# Altium integrated library TI Power Management Linear Regulator Dual Channel LDO.IntLib: 299 symbols (part 15 of 15)
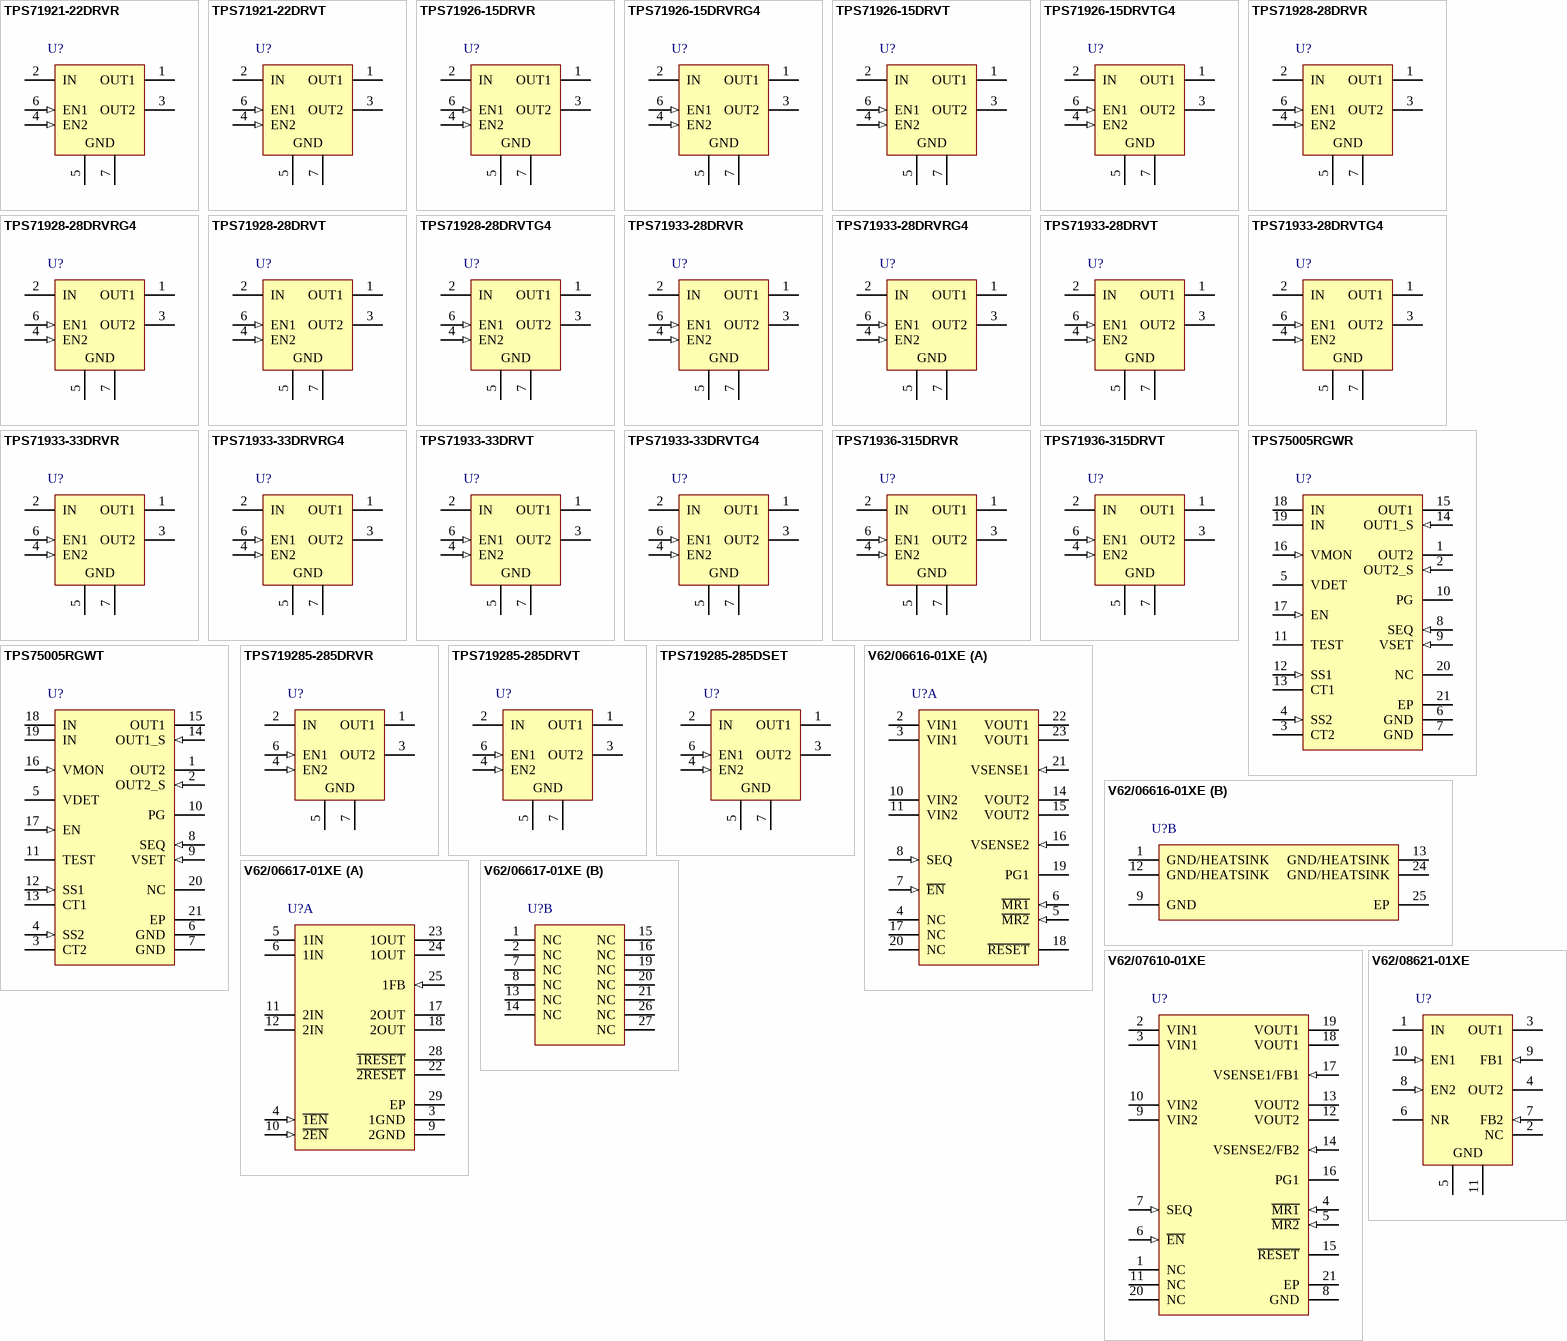
[diagram p25: symbols TPS71921-22DRVR to V62/08621-01XE]

## TPS71933-33DRVT
designator U?
Dual Output High PSRR LDO, 200 mA, Fixed 3.3 V Output, 2.7 to 6.5 V Input, 6-pin SON (DRV), -40 to 125 degC, Green (RoHS & no Sb/Br); Manufacturer: Texas Instruments; PartNumber: TPS71933-33DRVT; Fixed Output Options(V): 3.3; Iout(Max)(A): 0.2; Iq(Typ)(mA): 0.09; SubFamily: Dual Channel LDO; Vdo(Typ)(mV): 230; Vin(Max)(V): 6.5; Vin(Min)(V): 2.7; DatasheetVersion: SBVS088C; PackageVersion: 4206925/E; PackageReference: DRV6-1600X1000TP; PackageDescription: 6-Pin Plastic Small Outline No-Lead, Body 2 x 2 mm, Pitch 0.65 mm; Supplier 1: Digi-Key; Supplier Part Number 1: 296-32548-2-ND; Supplier 2: Digi-Key; Supplier Part Number 2: 296-32548-1-ND; Supplier 3: Digi-Key; Supplier Part Number 3: 296-32548-6-ND; Supplier 4: Newark; Supplier Part Number 4: 37M0081; Supplier 5: Mouser; Supplier Part Number 5: 595-TPS71933-33DRVT; Eco-Plan: Green (RoHS & no Sb/Br); Iout2(A): 0.2; Vout(Max)(V): 3.3; Vout(Min)(V): 3.3; Vout2(Max)(V): 3.3; Vout2(Min)(V): 3.3; Mounting Technology: Surface Mount; ComponentLink1Description: Manufacturer URL; ComponentLink1URL: http://www.ti.com/; ComponentLink2Description: Datasheet; ComponentLink2URL: http://www.ti.com/general/docs/lit/getliterature.tsp?genericPartNumber=TPS71933-33&fileType=pdf; ComponentLink3Description: Package Specification; ComponentLink3URL: http://www.ti.com/litv/pdf/mpds216d
footprint TI-DRV6-1600X1000TP_V (SON, 6-Leads, Body 2x2mm, Pitch 0.65mm, Thermal Pad 1X1.6mm)
pins: 1 OUT1 (power) "Output of Regulator 1. A small ceramic capacitor (typically >= 1uF) is needed from this pin to ground to assure stability.", 2 IN (power) "Input supply to both regulators.", 3 OUT2 (power) "Output of Regulator 2. A small ceramic capacitor (typically >= 1uF) is needed from this pin to ground to assure stability.", 4 EN2 (in) "Enable pin for Regulator 2. Driving the Enable pin (EN2) high turns on Regulator 2. Driving this pin low puts Regulator 2 into shutdown mode, reducing operating current.", 5 GND (power) "Ground.", 6 EN1 (in) "Enable pin for Regulator 1. Driving the Enable pin (EN1) high turns on Regulator 1. Driving this pin low puts Regulator 1 into shutdown mode, reducing operating current.", 7 GND (power) "DRV thermal pad should also be connected to ground."

## TPS71933-33DRVTG4
designator U?
Dual Output High PSRR LDO, 200 mA, Fixed 3.3 V Output, 2.7 to 6.5 V Input, 6-pin SON (DRV), -40 to 125 degC, Green (RoHS & no Sb/Br); Manufacturer: Texas Instruments; PartNumber: TPS71933-33DRVTG4; Fixed Output Options(V): 3.3; Iout(Max)(A): 0.2; Iq(Typ)(mA): 0.09; SubFamily: Dual Channel LDO; Vdo(Typ)(mV): 230; Vin(Max)(V): 6.5; Vin(Min)(V): 2.7; DatasheetVersion: SBVS088C; PackageVersion: 4206925/E; PackageReference: DRV6-1600X1000TP; PackageDescription: 6-Pin Plastic Small Outline No-Lead, Body 2 x 2 mm, Pitch 0.65 mm; Supplier 1: Digi-Key; Supplier Part Number 1: TPS71933-33DRVTG4-ND; Supplier 2: Newark; Supplier Part Number 2: 41M5907; Supplier 3: Mouser; Supplier Part Number 3: 595-TPS7193333DRVTG4; Eco-Plan: Green (RoHS & no Sb/Br); Iout2(A): 0.2; Vout(Max)(V): 3.3; Vout(Min)(V): 3.3; Vout2(Max)(V): 3.3; Vout2(Min)(V): 3.3; Mounting Technology: Surface Mount; ComponentLink1Description: Manufacturer URL; ComponentLink1URL: http://www.ti.com/; ComponentLink2Description: Datasheet; ComponentLink2URL: http://www.ti.com/general/docs/lit/getliterature.tsp?genericPartNumber=TPS71933-33&fileType=pdf; ComponentLink3Description: Package Specification; ComponentLink3URL: http://www.ti.com/litv/pdf/mpds216d
footprint TI-DRV6-1600X1000TP_V (SON, 6-Leads, Body 2x2mm, Pitch 0.65mm, Thermal Pad 1X1.6mm)
pins: 1 OUT1 (power) "Output of Regulator 1. A small ceramic capacitor (typically >= 1uF) is needed from this pin to ground to assure stability.", 2 IN (power) "Input supply to both regulators.", 3 OUT2 (power) "Output of Regulator 2. A small ceramic capacitor (typically >= 1uF) is needed from this pin to ground to assure stability.", 4 EN2 (in) "Enable pin for Regulator 2. Driving the Enable pin (EN2) high turns on Regulator 2. Driving this pin low puts Regulator 2 into shutdown mode, reducing operating current.", 5 GND (power) "Ground.", 6 EN1 (in) "Enable pin for Regulator 1. Driving the Enable pin (EN1) high turns on Regulator 1. Driving this pin low puts Regulator 1 into shutdown mode, reducing operating current.", 7 GND (power) "DRV thermal pad should also be connected to ground."

## TPS71936-315DRVR
designator U?
Dual Output High PSRR LDO, 200 mA, Fixed 3.6, 3.15 V Output, 2.7 to 6.5 V Input, 6-pin SON (DRV), -40 to 125 degC, Green (RoHS & no Sb/Br); Manufacturer: Texas Instruments; PartNumber: TPS71936-315DRVR; Iout(Max)(A): 0.2; Iq(Typ)(mA): 0.09; SubFamily: Dual Channel LDO; Vdo(Typ)(mV): 230; Vin(Max)(V): 6.5; Vin(Min)(V): 2.7; Vout(Max)(V): 3.6; Vout2(Max)(V): 3.1; DatasheetVersion: SBVS088C; PackageVersion: 4206925/E; PackageReference: DRV6-1600X1000TP; PackageDescription: 6-Pin Plastic Small Outline No-Lead, Body 2 x 2 mm, Pitch 0.65 mm; Supplier 1: Digi-Key; Supplier Part Number 1: 296-23956-2-ND; Supplier 2: Digi-Key; Supplier Part Number 2: 296-23956-1-ND; Supplier 3: Digi-Key; Supplier Part Number 3: 296-23956-6-ND; Supplier 4: Mouser; Supplier Part Number 4: 595-TPS71936-315DRVR; Eco-Plan: Green (RoHS & no Sb/Br); Fixed Output Options(V): 3.6, 3.15; Iout2(A): 0.2; Vout(Min)(V): 3.6; Vout2(Min)(V): 3.1; Mounting Technology: Surface Mount; ComponentLink1Description: Manufacturer URL; ComponentLink1URL: http://www.ti.com/; ComponentLink2Description: Datasheet; ComponentLink2URL: http://www.ti.com/general/docs/lit/getliterature.tsp?genericPartNumber=TPS71936-315&fileType=pdf; ComponentLink3Description: Package Specification; ComponentLink3URL: http://www.ti.com/litv/pdf/mpds216d
footprint TI-DRV6-1600X1000TP_V (SON, 6-Leads, Body 2x2mm, Pitch 0.65mm, Thermal Pad 1X1.6mm)
pins: 1 OUT1 (power) "Output of Regulator 1. A small ceramic capacitor (typically >= 1uF) is needed from this pin to ground to assure stability.", 2 IN (power) "Input supply to both regulators.", 3 OUT2 (power) "Output of Regulator 2. A small ceramic capacitor (typically >= 1uF) is needed from this pin to ground to assure stability.", 4 EN2 (in) "Enable pin for Regulator 2. Driving the Enable pin (EN2) high turns on Regulator 2. Driving this pin low puts Regulator 2 into shutdown mode, reducing operating current.", 5 GND (power) "Ground.", 6 EN1 (in) "Enable pin for Regulator 1. Driving the Enable pin (EN1) high turns on Regulator 1. Driving this pin low puts Regulator 1 into shutdown mode, reducing operating current.", 7 GND (power) "DRV thermal pad should also be connected to ground."

## TPS71936-315DRVT
designator U?
Dual Output High PSRR LDO, 200 mA, Fixed 3.6, 3.15 V Output, 2.7 to 6.5 V Input, 6-pin SON (DRV), -40 to 125 degC, Green (RoHS & no Sb/Br); Manufacturer: Texas Instruments; PartNumber: TPS71936-315DRVT; Iout(Max)(A): 0.2; Iq(Typ)(mA): 0.09; SubFamily: Dual Channel LDO; Vdo(Typ)(mV): 230; Vin(Max)(V): 6.5; Vin(Min)(V): 2.7; Vout(Max)(V): 3.6; Vout2(Max)(V): 3.1; DatasheetVersion: SBVS088C; PackageVersion: 4206925/E; PackageReference: DRV6-1600X1000TP; PackageDescription: 6-Pin Plastic Small Outline No-Lead, Body 2 x 2 mm, Pitch 0.65 mm; Supplier 1: Digi-Key; Supplier Part Number 1: TPS71936-315DRVT-ND; Supplier 2: Mouser; Supplier Part Number 2: 595-TPS71936-315DRVT; Eco-Plan: Green (RoHS & no Sb/Br); Fixed Output Options(V): 3.6, 3.15; Iout2(A): 0.2; Vout(Min)(V): 3.6; Vout2(Min)(V): 3.1; Mounting Technology: Surface Mount; ComponentLink1Description: Manufacturer URL; ComponentLink1URL: http://www.ti.com/; ComponentLink2Description: Datasheet; ComponentLink2URL: http://www.ti.com/general/docs/lit/getliterature.tsp?genericPartNumber=TPS71936-315&fileType=pdf; ComponentLink3Description: Package Specification; ComponentLink3URL: http://www.ti.com/litv/pdf/mpds216d
footprint TI-DRV6-1600X1000TP_V (SON, 6-Leads, Body 2x2mm, Pitch 0.65mm, Thermal Pad 1X1.6mm)
pins: 1 OUT1 (power) "Output of Regulator 1. A small ceramic capacitor (typically >= 1uF) is needed from this pin to ground to assure stability.", 2 IN (power) "Input supply to both regulators.", 3 OUT2 (power) "Output of Regulator 2. A small ceramic capacitor (typically >= 1uF) is needed from this pin to ground to assure stability.", 4 EN2 (in) "Enable pin for Regulator 2. Driving the Enable pin (EN2) high turns on Regulator 2. Driving this pin low puts Regulator 2 into shutdown mode, reducing operating current.", 5 GND (power) "Ground.", 6 EN1 (in) "Enable pin for Regulator 1. Driving the Enable pin (EN1) high turns on Regulator 1. Driving this pin low puts Regulator 1 into shutdown mode, reducing operating current.", 7 GND (power) "DRV thermal pad should also be connected to ground."

## TPS75005RGWR
designator U?
Dual Output Triple Voltage Rail Monitor LDO, 500 mA, Fixed 1.8, 3.3 V Output, 4 to 6.5 V Input, 20-pin VQFN (RGW), -40 to 125 degC, Green (RoHS & no Sb/Br); Manufacturer: Texas Instruments; PartNumber: TPS75005RGWR; Iout(Max)(A): 0.5; Iq(Typ)(mA): 0.175; Power Good: TRUE; SubFamily: Dual Channel LDO; Vdo(Typ)(mV): 300; Vin(Max)(V): 6.5; Vin(Min)(V): 4; Vout(Max)(V): 3.3; DatasheetVersion: SBVS144C; PackageReference: RGW20-3150X3150TP; PackageDescription: 20-Pin Plastic Quad Flat No-Pin, 5 x 5 mm Body, 0.65 mm Pitch, 3.15 x 3.15 mm Exposed Pad; Supplier 1: Digi-Key; Supplier Part Number 1: 296-29880-2-ND; Supplier 2: Digi-Key; Supplier Part Number 2: 296-29880-1-ND; Supplier 3: Digi-Key; Supplier Part Number 3: 296-29880-6-ND; Supplier 4: Mouser; Supplier Part Number 4: 595-TPS75005RGWR; Eco-Plan: Green (RoHS & no Sb/Br); Fixed Output Options(V): 1.8, 3.3; Iout2(A): 0.5; Soft Start: TRUE; Vout(Min)(V): 3.3; Vout2(Max)(V): 3.3; Vout2(Min)(V): 3.3; Mounting Technology: Surface Mount; Code_JEDEC: MO-220; ComponentLink1Description: Manufacturer URL; ComponentLink1URL: http://www.ti.com/; ComponentLink2Description: Datasheet; ComponentLink2URL: http://www.ti.com/general/docs/lit/getliterature.tsp?genericPartNumber=TPS75005&fileType=pdf; ComponentLink3Description: Package Specification; ComponentLink3URL: http://www.ti.com/litv/pdf/mpqf122b
footprint TI-RGW20-3150X3150TP_V (QFN, 20-Leads, Body 5x5mm, Pitch 0.65mm, Thermal Pad 3.15x3.15mm)
pins: 1 OUT2 (power) "LDO2 output voltage. Connect a 10-uF X5R or X7R capacitor between this pin and ground close to the device.", 2 OUT2_S (in) "LDO2 output voltage sense input. Connect directly to output capacitor close to pin 1.", 3 CT2 "SVS2 internal-power-good delay setting. Leave this pin open for the default delay setting or connect a capacitor between this pin and GND to program the delay. Do not connect a regular oscilloscope probe for monitoring.", 4 SS2 (in) "LDO2 soft-start setting. Leave this pin open for the default ramp up setting or connect a capacitor between this pin and GND to program VOUT2 ramp-up slew rate. Do not connect a regular oscilloscope probe for monitoring.", 5 VDET (oc) "Output of SVS3. This is an open-drain output terminal and a pull-up resistor is required. The typical connection is 100 k ohm to IN. When VMON > VSVS3, VDET outputs logic-H; when VMON < VSVS3, VDET is logic-L.", 6 GND (power) "Ground. Tie these pins to the thermal pad and maximize the copper in this area for optimal performance.", 7 GND (power) "Ground. Tie these pins to the thermal pad and maximize the copper in this area for optimal performance.", 8 SEQ (in) "Sequence select pin. Logic-L input to this pin powers-up two LDOs in this order: LDO1 first, and then LDO2. Logic-L also powers-down LDO2 first, and then LDO1. Logic-H to this pin powers-up two LDOs in this order: LDO2 (See Datasheet)", 9 VSET (in) "LDO1 output voltage setting. Logic-H input sets VOUT1 to 1.9 V. Logic-L sets VOUT1 to 1.8 V. It is recommended to tie this pin either to IN or GND depending on voltage required for the application.", 10 PG (oc) "Power-Good output. This is an open-drain output terminal and a pull-up resistor is required. The typical connection is 100 k ohm to OUT2. When VOUT1 > VSVS1 and VOUT2 > VSVS2, this pin outputs logic-H.", 11 TEST "Test pin for test and debugging purposes only. Do not connect this pin.", 12 SS1 (in) "LDO1 soft-start setting. Leave this pin open for the default ramp up setting or connect a capacitor, 10 nF or less, between this pin and GND to program VOUT1 ramp-up slew rate. Do not connect a regular oscilloscope probe for (See Datasheet)", 13 CT1 "SVS1 internal-power-good delay setting. Leave this pin open for the default delay setting or connect capacitor between this node and GND to program the delay. Do not connect a regular oscilloscope probe for monitoring.", 14 OUT1_S (in) "LDO1 output voltage sense input. Connect directly to output capacitor close to pin 15.", 15 OUT1 (power) "LDO1 output voltage. Connect a 10-uF X5R or X7R capacitor between this pin and ground close to the device.", 16 VMON (in) "Monitor input voltage of third voltage detector. A resistor divider on this pin between the voltage rail to be monitored and GND sets the threshold voltage. The detect threshold is 1.206 V.", 17 EN (in) "Enable inputs. Logic-H input to this pin triggers power-up sequence. Logic-L triggers power-down sequence. NOTE: The sequencing logic will automatically prevent powering up until the TPS75005 pulls the output rails to GND. (See Datasheet)", 18 IN (power) "Power supply to the device. Connect a 10-uF X5R or X7R dielectric capacitor between IN and GND close to the device.", 19 IN (power) "Power supply to the device. Connect a 10-uF X5R or X7R dielectric capacitor between IN and GND close to the device.", 20 NC "Not internally connected. This pin can be either tied to IN or GND to simplify layout.", 21 EP (power) "Pad for thermal dissipation. Tie this pin to GND with vias through the board to internal heat spreading layers as well as the back side of the PCB."

## TPS75005RGWT
designator U?
Dual Output Triple Voltage Rail Monitor LDO, 500 mA, Fixed 1.8, 3.3 V Output, 4 to 6.5 V Input, 20-pin VQFN (RGW), -40 to 125 degC, Green (RoHS & no Sb/Br); Manufacturer: Texas Instruments; PartNumber: TPS75005RGWT; Iout(Max)(A): 0.5; Iq(Typ)(mA): 0.175; Power Good: TRUE; SubFamily: Dual Channel LDO; Vdo(Typ)(mV): 300; Vin(Max)(V): 6.5; Vin(Min)(V): 4; Vout(Max)(V): 3.3; DatasheetVersion: SBVS144C; PackageReference: RGW20-3150X3150TP; PackageDescription: 20-Pin Plastic Quad Flat No-Pin, 5 x 5 mm Body, 0.65 mm Pitch, 3.15 x 3.15 mm Exposed Pad; Supplier 1: Digi-Key; Supplier Part Number 1: 296-32560-2-ND; Supplier 2: Digi-Key; Supplier Part Number 2: 296-32560-1-ND; Supplier 3: Digi-Key; Supplier Part Number 3: 296-32560-6-ND; Supplier 4: Farnell; Supplier Part Number 4: 2076030; Supplier 5: Newark; Supplier Part Number 5: 75T5162; Supplier 6: Newark; Supplier Part Number 6: 74T5583; Supplier 7: Mouser; Supplier Part Number 7: 595-TPS75005RGWT; Eco-Plan: Green (RoHS & no Sb/Br); Fixed Output Options(V): 1.8, 3.3; Iout2(A): 0.5; Soft Start: TRUE; Vout(Min)(V): 3.3; Vout2(Max)(V): 3.3; Vout2(Min)(V): 3.3; Mounting Technology: Surface Mount; Code_JEDEC: MO-220; ComponentLink1Description: Manufacturer URL; ComponentLink1URL: http://www.ti.com/; ComponentLink2Description: Datasheet; ComponentLink2URL: http://www.ti.com/general/docs/lit/getliterature.tsp?genericPartNumber=TPS75005&fileType=pdf; ComponentLink3Description: Package Specification; ComponentLink3URL: http://www.ti.com/litv/pdf/mpqf122b
footprint TI-RGW20-3150X3150TP_V (QFN, 20-Leads, Body 5x5mm, Pitch 0.65mm, Thermal Pad 3.15x3.15mm)
pins: 1 OUT2 (power) "LDO2 output voltage. Connect a 10-uF X5R or X7R capacitor between this pin and ground close to the device.", 2 OUT2_S (in) "LDO2 output voltage sense input. Connect directly to output capacitor close to pin 1.", 3 CT2 "SVS2 internal-power-good delay setting. Leave this pin open for the default delay setting or connect a capacitor between this pin and GND to program the delay. Do not connect a regular oscilloscope probe for monitoring.", 4 SS2 (in) "LDO2 soft-start setting. Leave this pin open for the default ramp up setting or connect a capacitor between this pin and GND to program VOUT2 ramp-up slew rate. Do not connect a regular oscilloscope probe for monitoring.", 5 VDET (oc) "Output of SVS3. This is an open-drain output terminal and a pull-up resistor is required. The typical connection is 100 k ohm to IN. When VMON > VSVS3, VDET outputs logic-H; when VMON < VSVS3, VDET is logic-L.", 6 GND (power) "Ground. Tie these pins to the thermal pad and maximize the copper in this area for optimal performance.", 7 GND (power) "Ground. Tie these pins to the thermal pad and maximize the copper in this area for optimal performance.", 8 SEQ (in) "Sequence select pin. Logic-L input to this pin powers-up two LDOs in this order: LDO1 first, and then LDO2. Logic-L also powers-down LDO2 first, and then LDO1. Logic-H to this pin powers-up two LDOs in this order: LDO2 (See Datasheet)", 9 VSET (in) "LDO1 output voltage setting. Logic-H input sets VOUT1 to 1.9 V. Logic-L sets VOUT1 to 1.8 V. It is recommended to tie this pin either to IN or GND depending on voltage required for the application.", 10 PG (oc) "Power-Good output. This is an open-drain output terminal and a pull-up resistor is required. The typical connection is 100 k ohm to OUT2. When VOUT1 > VSVS1 and VOUT2 > VSVS2, this pin outputs logic-H.", 11 TEST "Test pin for test and debugging purposes only. Do not connect this pin.", 12 SS1 (in) "LDO1 soft-start setting. Leave this pin open for the default ramp up setting or connect a capacitor, 10 nF or less, between this pin and GND to program VOUT1 ramp-up slew rate. Do not connect a regular oscilloscope probe for (See Datasheet)", 13 CT1 "SVS1 internal-power-good delay setting. Leave this pin open for the default delay setting or connect capacitor between this node and GND to program the delay. Do not connect a regular oscilloscope probe for monitoring.", 14 OUT1_S (in) "LDO1 output voltage sense input. Connect directly to output capacitor close to pin 15.", 15 OUT1 (power) "LDO1 output voltage. Connect a 10-uF X5R or X7R capacitor between this pin and ground close to the device.", 16 VMON (in) "Monitor input voltage of third voltage detector. A resistor divider on this pin between the voltage rail to be monitored and GND sets the threshold voltage. The detect threshold is 1.206 V.", 17 EN (in) "Enable inputs. Logic-H input to this pin triggers power-up sequence. Logic-L triggers power-down sequence. NOTE: The sequencing logic will automatically prevent powering up until the TPS75005 pulls the output rails to GND. (See Datasheet)", 18 IN (power) "Power supply to the device. Connect a 10-uF X5R or X7R dielectric capacitor between IN and GND close to the device.", 19 IN (power) "Power supply to the device. Connect a 10-uF X5R or X7R dielectric capacitor between IN and GND close to the device.", 20 NC "Not internally connected. This pin can be either tied to IN or GND to simplify layout.", 21 EP (power) "Pad for thermal dissipation. Tie this pin to GND with vias through the board to internal heat spreading layers as well as the back side of the PCB."

## TPS719285-285DRVR
designator U?
Dual Output High PSRR LDO, 200 mA, Fixed 2.85 V Output, 2.7 to 6.5 V Input, 6-pin SON (DRV), -40 to 125 degC; Manufacturer: Texas Instruments; PartNumber: TPS719285-285DRVR; Fixed Output Options(V): 2.85; Iout(Max)(A): 0.2; Iq(Typ)(mA): 0.09; SubFamily: Dual Channel LDO; Vdo(Typ)(mV): 230; Vin(Max)(V): 6.5; Vin(Min)(V): 2.7; Vout(Max)(V): 2.8; DatasheetVersion: SBVS088C; PackageVersion: 4206925/E; PackageReference: DRV6-1600X1000TP; PackageDescription: 6-Pin Plastic Small Outline No-Lead, Body 2 x 2 mm, Pitch 0.65 mm; Supplier 1: Digi-Key; Supplier Part Number 1: 296-24056-2-ND; Supplier 2: Digi-Key; Supplier Part Number 2: 296-24056-1-ND; Supplier 3: Digi-Key; Supplier Part Number 3: 296-24056-6-ND; Supplier 4: Mouser; Supplier Part Number 4: 595-TPS719285285DRVR; Iout2(A): 0.2; Vout(Min)(V): 2.8; Vout2(Max)(V): 2.8; Vout2(Min)(V): 2.8; Mounting Technology: Surface Mount; ComponentLink1Description: Manufacturer URL; ComponentLink1URL: http://www.ti.com/; ComponentLink2Description: Datasheet; ComponentLink2URL: http://www.ti.com/general/docs/lit/getliterature.tsp?genericPartNumber=TPS719285-285&fileType=pdf; ComponentLink3Description: Package Specification; ComponentLink3URL: http://www.ti.com/litv/pdf/mpds216d
footprint TI-DRV6-1600X1000TP_V (SON, 6-Leads, Body 2x2mm, Pitch 0.65mm, Thermal Pad 1X1.6mm)
pins: 1 OUT1 (power) "Output of Regulator 1. A small ceramic capacitor (typically >= 1uF) is needed from this pin to ground to assure stability.", 2 IN (power) "Input supply to both regulators.", 3 OUT2 (power) "Output of Regulator 2. A small ceramic capacitor (typically >= 1uF) is needed from this pin to ground to assure stability.", 4 EN2 (in) "Enable pin for Regulator 2. Driving the Enable pin (EN2) high turns on Regulator 2. Driving this pin low puts Regulator 2 into shutdown mode, reducing operating current.", 5 GND (power) "Ground.", 6 EN1 (in) "Enable pin for Regulator 1. Driving the Enable pin (EN1) high turns on Regulator 1. Driving this pin low puts Regulator 1 into shutdown mode, reducing operating current.", 7 GND (power) "DRV thermal pad should also be connected to ground."

## TPS719285-285DRVT
designator U?
Dual Output High PSRR LDO, 200 mA, Fixed 2.85 V Output, 2.7 to 6.5 V Input, 6-pin SON (DRV), -40 to 125 degC; Manufacturer: Texas Instruments; PartNumber: TPS719285-285DRVT; Fixed Output Options(V): 2.85; Iout(Max)(A): 0.2; Iq(Typ)(mA): 0.09; SubFamily: Dual Channel LDO; Vdo(Typ)(mV): 230; Vin(Max)(V): 6.5; Vin(Min)(V): 2.7; Vout(Max)(V): 2.8; DatasheetVersion: SBVS088C; PackageVersion: 4206925/E; PackageReference: DRV6-1600X1000TP; PackageDescription: 6-Pin Plastic Small Outline No-Lead, Body 2 x 2 mm, Pitch 0.65 mm; Supplier 1: Digi-Key; Supplier Part Number 1: TPS719285-285DRVT-ND; Supplier 2: Mouser; Supplier Part Number 2: 595-TPS719285285DRVT; Iout2(A): 0.2; Vout(Min)(V): 2.8; Vout2(Max)(V): 2.8; Vout2(Min)(V): 2.8; Mounting Technology: Surface Mount; ComponentLink1Description: Manufacturer URL; ComponentLink1URL: http://www.ti.com/; ComponentLink2Description: Datasheet; ComponentLink2URL: http://www.ti.com/general/docs/lit/getliterature.tsp?genericPartNumber=TPS719285-285&fileType=pdf; ComponentLink3Description: Package Specification; ComponentLink3URL: http://www.ti.com/litv/pdf/mpds216d
footprint TI-DRV6-1600X1000TP_V (SON, 6-Leads, Body 2x2mm, Pitch 0.65mm, Thermal Pad 1X1.6mm)
pins: 1 OUT1 (power) "Output of Regulator 1. A small ceramic capacitor (typically >= 1uF) is needed from this pin to ground to assure stability.", 2 IN (power) "Input supply to both regulators.", 3 OUT2 (power) "Output of Regulator 2. A small ceramic capacitor (typically >= 1uF) is needed from this pin to ground to assure stability.", 4 EN2 (in) "Enable pin for Regulator 2. Driving the Enable pin (EN2) high turns on Regulator 2. Driving this pin low puts Regulator 2 into shutdown mode, reducing operating current.", 5 GND (power) "Ground.", 6 EN1 (in) "Enable pin for Regulator 1. Driving the Enable pin (EN1) high turns on Regulator 1. Driving this pin low puts Regulator 1 into shutdown mode, reducing operating current.", 7 GND (power) "DRV thermal pad should also be connected to ground."

## TPS719285-285DSET
designator U?
Dual Output High PSRR LDO, 200 mA, Fixed 2.85 V Output, 2.7 to 6.5 V Input, 6-pin SON (DRV), -40 to 125 degC; Manufacturer: Texas Instruments; PartNumber: TPS719285-285DSET; Fixed Output Options(V): 2.85; Iout(Max)(A): 0.2; Iq(Typ)(mA): 0.09; SubFamily: Dual Channel LDO; Vdo(Typ)(mV): 230; Vin(Max)(V): 6.5; Vin(Min)(V): 2.7; Vout(Max)(V): 2.8; DatasheetVersion: SBVS088C; PackageVersion: 4206925/E; PackageReference: DRV6-1600X1000TP; PackageDescription: 6-Pin Plastic Small Outline No-Lead, Body 2 x 2 mm, Pitch 0.65 mm; Supplier 1: Mouser; Supplier Part Number 1: N/A; Iout2(A): 0.2; Vout(Min)(V): 2.8; Vout2(Max)(V): 2.8; Vout2(Min)(V): 2.8; Mounting Technology: Surface Mount; ComponentLink1Description: Manufacturer URL; ComponentLink1URL: http://www.ti.com/; ComponentLink2Description: Datasheet; ComponentLink2URL: http://www.ti.com/general/docs/lit/getliterature.tsp?genericPartNumber=TPS719285-285&fileType=pdf; ComponentLink3Description: Package Specification; ComponentLink3URL: http://www.ti.com/litv/pdf/mpds216d
footprint TI-DRV6-1600X1000TP_V (SON, 6-Leads, Body 2x2mm, Pitch 0.65mm, Thermal Pad 1X1.6mm)
pins: 1 OUT1 (power) "Output of Regulator 1. A small ceramic capacitor (typically >= 1uF) is needed from this pin to ground to assure stability.", 2 IN (power) "Input supply to both regulators.", 3 OUT2 (power) "Output of Regulator 2. A small ceramic capacitor (typically >= 1uF) is needed from this pin to ground to assure stability.", 4 EN2 (in) "Enable pin for Regulator 2. Driving the Enable pin (EN2) high turns on Regulator 2. Driving this pin low puts Regulator 2 into shutdown mode, reducing operating current.", 5 GND (power) "Ground.", 6 EN1 (in) "Enable pin for Regulator 1. Driving the Enable pin (EN1) high turns on Regulator 1. Driving this pin low puts Regulator 1 into shutdown mode, reducing operating current.", 7 GND (power) "DRV thermal pad should also be connected to ground."

## V62/06616-01XE
designator U?
Dual Output LDO, 1 A, Fixed 3.3, 1.2 V Output, 2.7 to 6 V Input, with Power-Up Sequencing, 24-pin HTSSOP (PWP), -55 to 125 degC, Green (RoHS & no Sb/Br); Manufacturer: Texas Instruments; PartNumber: V62/06616-01XE; Iout(Max)(A): 1; Iout2(A): 2; Iq(Typ)(mA): 0.18; SubFamily: Dual Channel LDO; Vdo(Typ)(mV): 160; Vin(Max)(V): 6; Vin(Min)(V): 2.7; Vout(Max)(V): 1.2; DatasheetVersion: SGLS323A; PackageVersion: 4073225-5/I; PackageReference: PWP24-2010X4210TP; PackageDescription: 24-Pin Plastic Small Outline, Body 4.4 x 7.8 mm, Pitch 0.65 mm; Supplier 1: Newark; Supplier Part Number 1: 46M1807; Supplier 2: Mouser; Supplier Part Number 2: 595-V62/06616-01XE; Eco-Plan: Green (RoHS & no Sb/Br); Fixed Output Options(V): 3.3, 1.2; Vout(Min)(V): 1.2; Mounting Technology: Surface Mount; Code_JEDEC: MO-153; ComponentLink1Description: Manufacturer URL; ComponentLink1URL: http://www.ti.com/; ComponentLink2Description: Datasheet; ComponentLink2URL: http://www.ti.com/general/docs/lit/getliterature.tsp?genericPartNumber=TPS70345-EP&fileType=pdf; ComponentLink3Description: Package Specification; ComponentLink3URL: http://www.ti.com/litv/pdf/mpds372
footprint TI-PWP24-2010X4210TP_N (SOP, 24-Leads, Body 7.8x4.4mm, Pitch 0.65mm, Thermal Pad 2010X4210mm, IPC Medium Density)
footprint TI-PWP24-2010X4210TP_L (SOP, 24-Leads, Body 7.8x4.4mm, Pitch 0.65mm, Thermal Pad 2010X4210mm, IPC High Density)
footprint TI-PWP24-2010X4210TP_M (SOP, 24-Leads, Body 7.8x4.4mm, Pitch 0.65mm, Thermal Pad 2010X4210mm, IPC Low Density)
part A pins: 2 VIN1 (power) "Input voltage of regulator 1", 3 VIN1 (power) "Input voltage of regulator 1", 4 NC "No connection", 5 ~{MR2} (in) "Manual reset input 2, active low, pulled up internally", 6 ~{MR1} (in) "Manual reset input 1, active low, pulled up internally", 7 ~{EN} (in) "Active low enable", 8 SEQ (in) "Power-up sequence control: SEQ = High, VOUT2 powers up first; SEQ = Low, VOUT1 powers up first. SEQ terminal pulled up internally.", 10 VIN2 (power) "Input voltage of regulator 2", 11 VIN2 (power) "Input voltage of regulator 2", 14 VOUT2 (power) "Output voltage of regulator 2", 15 VOUT2 (power) "Output voltage of regulator 2", 16 VSENSE2 (in) "Regulator 2 output voltage sense", 17 NC "No connection", 18 ~{RESET} (hiz) "Open drain output, SVS (power-on reset) signal, active low", 19 PG1 (hiz) "Open drain output, low when VOUT1 voltage is less than 95% of the nominal regulated voltage", 20 NC "No connection", 21 VSENSE1 (in) "Regulator 1 output voltage sense", 22 VOUT1 (power) "Output voltage of regulator 1", 23 VOUT1 (power) "Output voltage of regulator 1"
part B pins: 1 GND/HEATSINK (power) "Ground/heatsink", 9 GND (power) "Regulator ground", 12 GND/HEATSINK (power) "Ground/heatsink", 13 GND/HEATSINK (power) "Ground/heatsink", 24 GND/HEATSINK (power) "Ground/heatsink", 25 EP (power) "Expoeed Thermal Pad"

## V62/06617-01XE
designator U?
Dual Output LDO, 1 A, Adjustable 1.5 to 5.5 V Output, 2.7 to 10 V Input, 28-pin HTSSOP (PWP), -55 to 125 degC, Green (RoHS & no Sb/Br); Manufacturer: Texas Instruments; PartNumber: V62/06617-01XE; Fixed Output Options(V): 3.3; Iout(Max)(A): 1; Iq(Typ)(mA): 0.08; SubFamily: Dual Channel LDO; Vdo(Typ)(mV): 350; Vin(Max)(V): 10; Vin(Min)(V): 2.7; DatasheetVersion: SGLS327A; PackageVersion: 4073225-6/I; PackageReference: PWP28-5720X1950TP; PackageDescription: 28-Pin Plastic Small Outline, Body 4.4 x 9.7 mm, Pitch 0.65 mm; Supplier 1: Newark; Supplier Part Number 1: 46M1808; Supplier 2: Mouser; Supplier Part Number 2: 595-V62/06617-01XE; Eco-Plan: Green (RoHS & no Sb/Br); Iout2(A): 1; Mounting Technology: Surface Mount; Code_JEDEC: MO-153; ComponentLink1Description: Manufacturer URL; ComponentLink1URL: http://www.ti.com/; ComponentLink2Description: Datasheet; ComponentLink2URL: http://www.ti.com/general/docs/lit/getliterature.tsp?genericPartNumber=TPS767D301-EP&fileType=pdf; ComponentLink3Description: Package Specification; ComponentLink3URL: http://www.ti.com/litv/pdf/mpds373
footprint TI-PWP28-5720X1950TP_N (SOP, 28-Leads, Body 9.7x4.4mm, Pitch 0.65mm, Thermal Pad 5.72 x 1.95mm, IPC Medium Density)
footprint TI-PWP28-5720X1950TP_L (SOP, 28-Leads, Body 9.7x4.4mm, Pitch 0.65mm, Thermal Pad 5.72 x 1.95mm, IPC High Density)
footprint TI-PWP28-5720X1950TP_M (SOP, 28-Leads, Body 9.7x4.4mm, Pitch 0.65mm, Thermal Pad 5.72 x 1.95mm, IPC Low Density)
part A pins: 3 1GND (power) "Regulator #1 ground", 4 ~{1EN} (in) "Regulator #1 enable", 5 1IN (power) "Regulator #1 input supply voltage", 6 1IN (power) "Regulator #1 input supply voltage", 9 2GND (power) "Regulator #2 ground", 10 ~{2EN} (in) "Regulator #2 enable", 11 2IN (power) "Regulator #2 input supply voltage", 12 2IN (power) "Regulator #2 input supply voltage", 17 2OUT (power) "Regulator #2 output voltage", 18 2OUT (power) "Regulator #2 output voltage", 22 ~{2RESET} (hiz) "Regulator #2 reset signal", 23 1OUT (power) "Regulator #1 output voltage", 24 1OUT (power) "Regulator #1 output voltage", 25 1FB (in) "Regulator #1 output voltage feedback for adjustable", 28 ~{1RESET} (hiz) "Regulator #1 reset signal", 29 EP "Exposed Thermal Pad"
part B pins: 1 NC "No connection", 2 NC "No connection", 7 NC "No connection", 8 NC "No connection", 13 NC "No connection", 14 NC "No connection", 15 NC "No connection", 16 NC "No connection", 19 NC "No connection", 20 NC "No connection", 21 NC "No internal connection", 26 NC "No connection", 27 NC "No connection"

## V62/07610-01XE
designator U?
Dual Output LDO, 200 mA, Fixed 3.3, 1.8 V Output, 2.7 to 6 V Input, with Power-Up Sequencing, 20-pin HTSSOP (PWP), -55 to 125 degC, Green (RoHS & no Sb/Br); Manufacturer: Texas Instruments; PartNumber: V62/07610-01XE; Iout(Max)(A): 0.2; Iout2(A): 0.1; Iq(Typ)(mA): 0.19; SubFamily: Dual Channel LDO; Vdo(Typ)(mV): 83; Vin(Max)(V): 6; Vin(Min)(V): 2.7; Vout(Max)(V): 3.3; DatasheetVersion: SLVS718; PackageVersion: 4073225-4/I; PackageReference: PWP20-3005X2005TP; PackageDescription: 20-Pin Plastic Small Outline, Body 6.50 x 4.40 mm, Pitch 0.65 mm; Supplier 1: Newark; Supplier Part Number 1: 46M1902; Supplier 2: Mouser; Supplier Part Number 2: 595-V62/07610-01XE; Eco-Plan: Green (RoHS & no Sb/Br); Fixed Output Options(V): 3.3, 1.8; Vout(Min)(V): 3.3; Mounting Technology: Surface Mount; Code_JEDEC: MO-153; ComponentLink1Description: Manufacturer URL; ComponentLink1URL: http://www.ti.com/; ComponentLink2Description: Datasheet; ComponentLink2URL: http://www.ti.com/general/docs/lit/getliterature.tsp?genericPartNumber=TPS70751-EP&fileType=pdf; ComponentLink3Description: Package Specification; ComponentLink3URL: http://www.ti.com/lit/ml/mhts001g/mhts001g.pdf
footprint TI-PWP20-3005X2005TP_N (SOP, 20-Leads, Body 6.5x4.4mm, Pitch 0.65mm, Thermal Pad 3.005 x 2.005mm, IPC Medium Density)
footprint TI-PWP20-3005X2005TP_L (SOP, 20-Leads, Body 6.5x4.4mm, Pitch 0.65mm, Thermal Pad 3.005 x 2.005mm, IPC High Density)
footprint TI-PWP20-3005X2005TP_M (SOP, 20-Leads, Body 6.5x4.4mm, Pitch 0.65mm, Thermal Pad 3.005 x 2.005mm, IPC Low Density)
pins: 1 NC "No connection", 2 VIN1 (power) "Regulator 1 input voltage", 3 VIN1 (power) "Regulator 1 input voltage", 4 ~{MR1} (in) "Manual reset input 1, active low, pulled up internally", 5 ~{MR2} (in) "Manual reset input 2, active low, pulled up internally", 6 ~{EN} (in) "Active low enable", 7 SEQ (in) "Power-up sequence control: SEQ = High, VOUT2 powers up first; SEQ = Low, VOUT1 powers up first, SEQ terminal pulled up internally.", 8 GND (power) "Ground", 9 VIN2 (power) "Regulator 2 input voltage", 10 VIN2 (power) "Regulator 2 input voltage", 11 NC "No connection", 12 VOUT2 (power) "Regulator 2 output voltage", 13 VOUT2 (power) "Regulator 2 output voltage", 14 VSENSE2/FB2 (in) "Regulator 2 output voltage sense/feedback 2", 15 ~{RESET} (hiz) "Open drain output, SVS (power-on reset) signal, active low", 16 PG1 (hiz) "Open drain output, low when VOUT1 voltage is less than 95% of the nominal regulated voltage", 17 VSENSE1/FB1 (in) "Regulator 1 output voltage sense/feedback 1", 18 VOUT1 (power) "Regulator 1 output voltage", 19 VOUT1 (power) "Regulator 1 output voltage", 20 NC "No connection", 21 EP "Exposed Thermal Pad"

## V62/08621-01XE
designator U?
Dual Output High PSRR LDO, 200 mA, 2.7 to 5.5 V Input, with Ultra-Low Noise, 10-pin SON(DRC), -55 to 125 degC, Green (RoHS & no Sb/Br); Manufacturer: Texas Instruments; PartNumber: V62/08621-01XE; Iout(Max)(A): 0.2; Iq(Typ)(mA): 0.3; SubFamily: Dual Channel LDO; Vdo(Typ)(mV): 125; Vin(Max)(V): 5.5; Vin(Min)(V): 2.7; Vout(Min)(V): 1.2; DatasheetVersion: SGLS395A; PackageVersion: 4204102-3/L; PackageReference: DRC10-2400X1650TP; PackageDescription: 10-Pin Plastic Small Outline, Body 3 x 3 mm, Pitch 0.5 mm; Supplier 1: Mouser; Supplier Part Number 1: 595-V62/08621-01XE; Eco-Plan: Green (RoHS & no Sb/Br); Iout2(A): 0.2; Vout(Max)(V): 5.5; Vout2(Max)(V): 5.5; Vout2(Min)(V): 1.2; Mounting Technology: Surface Mount; ComponentLink1Description: Manufacturer URL; ComponentLink1URL: http://www.ti.com/; ComponentLink2Description: Datasheet; ComponentLink2URL: http://www.ti.com/general/docs/lit/getliterature.tsp?genericPartNumber=TPS71202-EP&fileType=pdf; ComponentLink3Description: Package Specification; ComponentLink3URL: http://www.ti.com/litv/pdf/mpds117k
footprint TI-DRC10-2400X1650TP_V (SON, 10-Leads, Body 3x3mm, Pitch 0.5mm, Thermal Pad 3x1.65mm)
pins: 1 IN (power) "Unregulated input supply. A small 0.1 uF capacitor should be connected from IN to GND.", 2 NC "No connection.", 3 OUT1 (power) "Output of the regulator. A small 2.2 uF ceramic capacitor is required from this pin to ground to assure stability.", 4 OUT2 (power) "Same as OUT1 but for LDO2.", 5 GND (power) "Ground", 6 NR "Noise reduction pin; connect an external bypass capacitor to reduce LDO output noise.", 7 FB2 (in) "Feedback for CH2 adjustable version", 8 EN2 (in) "Same as EN1 but controls LDO2.", 9 FB1 (in) "Feedback for CH1 adjustable version", 10 EN1 (in) "Driving the enable pin (EN) high turns on LDO1. Driving this pin low puts LDO1 into shutdown mode,reducing operating current. The enable pin should be connected to IN if not used.", 11 GND (power) "Ground"